# Altium schematic symbol library WRIS-KWKH.SchLib: 14 symbols
Pins are listed as number, name and electrical type; pins without a type are passive.

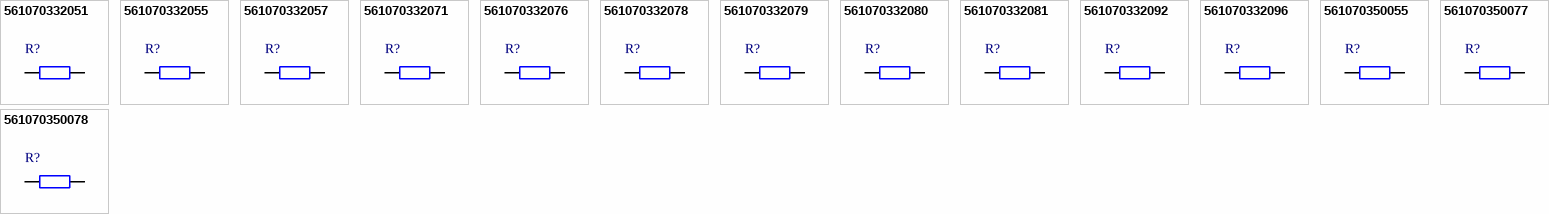
[diagram p0: symbols 561070332051 to 561070350078]

## 561070332051
designator R?, comment 100mΩ  (value not drawn)
WRIS-KWKH Thick Film Resistor, SMT, size 0612, 1W, 100mΩ, +/-1%; Manufacturer Part Number: 561070332051; Manufacturer: Wurth Elektronik; Case/Size Code: 0612; Rated Current: 3.2A; Temperature Coefficient of Resistance: 350ppm/°C; Category: Thick Film Resistors; Match Code: WRIS-KWKH; ComponentLink1Description: Website Link; ComponentLink1URL: https://www.we-online.com/redexpert/article/561070332051?ad; ComponentLink2Description: Datasheet Link; ComponentLink2URL: https://www.we-online.com/redexpert/spec/561070332051?ad; Mount: Surface Mount; Min Operating Temperature: -55°C; Max Operating Temperature: 155°C; Packaging: Tape and Reel; Length: 3.2mm; Width: 1.6mm; Height: 0.55mm; Rated Power: 1W; Resistance: 100mΩ; Resistance Tolerance: +/-1%
footprint WRIS-KWKH_0612_L3.2W1.6H0.55
pins: 1, 2

## 561070332055
designator R?, comment 150mΩ  (value not drawn)
WRIS-KWKH Thick Film Resistor, SMT, size 0612, 1W, 150mΩ, +/-1%; Manufacturer Part Number: 561070332055; Manufacturer: Wurth Elektronik; Case/Size Code: 0612; Rated Current: 2.6A; Temperature Coefficient of Resistance: 350ppm/°C; Category: Thick Film Resistors; Match Code: WRIS-KWKH; ComponentLink1Description: Website Link; ComponentLink1URL: https://www.we-online.com/redexpert/article/561070332055?ad; ComponentLink2Description: Datasheet Link; ComponentLink2URL: https://www.we-online.com/redexpert/spec/561070332055?ad; Mount: Surface Mount; Min Operating Temperature: -55°C; Max Operating Temperature: 155°C; Packaging: Tape and Reel; Length: 3.2mm; Width: 1.6mm; Height: 0.55mm; Rated Power: 1W; Resistance: 150mΩ; Resistance Tolerance: +/-1%
footprint WRIS-KWKH_0612_L3.2W1.6H0.55
pins: 1, 2

## 561070332057
designator R?, comment 180mΩ  (value not drawn)
WRIS-KWKH Thick Film Resistor, SMT, size 0612, 1W, 180mΩ, +/-1%; Manufacturer Part Number: 561070332057; Manufacturer: Wurth Elektronik; Case/Size Code: 0612; Rated Current: 2.4A; Temperature Coefficient of Resistance: 350ppm/°C; Category: Thick Film Resistors; Match Code: WRIS-KWKH; ComponentLink1Description: Website Link; ComponentLink1URL: https://www.we-online.com/redexpert/article/561070332057?ad; ComponentLink2Description: Datasheet Link; ComponentLink2URL: https://www.we-online.com/redexpert/spec/561070332057?ad; Mount: Surface Mount; Min Operating Temperature: -55°C; Max Operating Temperature: 155°C; Packaging: Tape and Reel; Length: 3.2mm; Width: 1.6mm; Height: 0.55mm; Rated Power: 1W; Resistance: 180mΩ; Resistance Tolerance: +/-1%
footprint WRIS-KWKH_0612_L3.2W1.6H0.55
pins: 1, 2

## 561070332071
designator R?, comment 330mΩ  (value not drawn)
WRIS-KWKH Thick Film Resistor, SMT, size 0612, 1W, 330mΩ, +/-1%; Manufacturer Part Number: 561070332071; Manufacturer: Wurth Elektronik; Case/Size Code: 0612; Rated Current: 1.7A; Temperature Coefficient of Resistance: 250ppm/°C; Category: Thick Film Resistors; Match Code: WRIS-KWKH; ComponentLink1Description: Website Link; ComponentLink1URL: https://www.we-online.com/redexpert/article/561070332071?ad; ComponentLink2Description: Datasheet Link; ComponentLink2URL: https://www.we-online.com/redexpert/spec/561070332071?ad; Mount: Surface Mount; Min Operating Temperature: -55°C; Max Operating Temperature: 155°C; Packaging: Tape and Reel; Length: 3.2mm; Width: 1.6mm; Height: 0.55mm; Rated Power: 1W; Resistance: 330mΩ; Resistance Tolerance: +/-1%
footprint WRIS-KWKH_0612_L3.2W1.6H0.55
pins: 1, 2

## 561070332076
designator R?, comment 470mΩ  (value not drawn)
WRIS-KWKH Thick Film Resistor, SMT, size 0612, 1W, 470mΩ, +/-1%; Manufacturer Part Number: 561070332076; Manufacturer: Wurth Elektronik; Case/Size Code: 0612; Rated Current: 1.5A; Temperature Coefficient of Resistance: 250ppm/°C; Category: Thick Film Resistors; Match Code: WRIS-KWKH; ComponentLink1Description: Website Link; ComponentLink1URL: https://www.we-online.com/redexpert/article/561070332076?ad; ComponentLink2Description: Datasheet Link; ComponentLink2URL: https://www.we-online.com/redexpert/spec/561070332076?ad; Mount: Surface Mount; Min Operating Temperature: -55°C; Max Operating Temperature: 155°C; Packaging: Tape and Reel; Length: 3.2mm; Width: 1.6mm; Height: 0.55mm; Rated Power: 1W; Resistance: 470mΩ; Resistance Tolerance: +/-1%
footprint WRIS-KWKH_0612_L3.2W1.6H0.55
pins: 1, 2

## 561070332078
designator R?, comment 510mΩ  (value not drawn)
WRIS-KWKH Thick Film Resistor, SMT, size 0612, 1W, 510mΩ, +/-1%; Manufacturer Part Number: 561070332078; Manufacturer: Wurth Elektronik; Case/Size Code: 0612; Rated Current: 1.4A; Temperature Coefficient of Resistance: 200ppm/°C; Category: Thick Film Resistors; Match Code: WRIS-KWKH; ComponentLink1Description: Website Link; ComponentLink1URL: https://www.we-online.com/redexpert/article/561070332078?ad; ComponentLink2Description: Datasheet Link; ComponentLink2URL: https://www.we-online.com/redexpert/spec/561070332078?ad; Mount: Surface Mount; Min Operating Temperature: -55°C; Max Operating Temperature: 155°C; Packaging: Tape and Reel; Length: 3.2mm; Width: 1.6mm; Height: 0.55mm; Rated Power: 1W; Resistance: 510mΩ; Resistance Tolerance: +/-1%
footprint WRIS-KWKH_0612_L3.2W1.6H0.55
pins: 1, 2

## 561070332079
designator R?, comment 560mΩ  (value not drawn)
WRIS-KWKH Thick Film Resistor, SMT, size 0612, 1W, 560mΩ, +/-1%; Manufacturer Part Number: 561070332079; Manufacturer: Wurth Elektronik; Case/Size Code: 0612; Rated Current: 1.3A; Temperature Coefficient of Resistance: 200ppm/°C; Category: Thick Film Resistors; Match Code: WRIS-KWKH; ComponentLink1Description: Website Link; ComponentLink1URL: https://www.we-online.com/redexpert/article/561070332079?ad; ComponentLink2Description: Datasheet Link; ComponentLink2URL: https://www.we-online.com/redexpert/spec/561070332079?ad; Mount: Surface Mount; Min Operating Temperature: -55°C; Max Operating Temperature: 155°C; Packaging: Tape and Reel; Length: 3.2mm; Width: 1.6mm; Height: 0.55mm; Rated Power: 1W; Resistance: 560mΩ; Resistance Tolerance: +/-1%
footprint WRIS-KWKH_0612_L3.2W1.6H0.55
pins: 1, 2

## 561070332080
designator R?, comment 600mΩ  (value not drawn)
WRIS-KWKH Thick Film Resistor, SMT, size 0612, 1W, 600mΩ, +/-1%; Manufacturer Part Number: 561070332080; Manufacturer: Wurth Elektronik; Case/Size Code: 0612; Rated Current: 1.3A; Temperature Coefficient of Resistance: 200ppm/°C; Category: Thick Film Resistors; Match Code: WRIS-KWKH; ComponentLink1Description: Website Link; ComponentLink1URL: https://www.we-online.com/redexpert/article/561070332080?ad; ComponentLink2Description: Datasheet Link; ComponentLink2URL: https://www.we-online.com/redexpert/spec/561070332080?ad; Mount: Surface Mount; Min Operating Temperature: -55°C; Max Operating Temperature: 155°C; Packaging: Tape and Reel; Length: 3.2mm; Width: 1.6mm; Height: 0.55mm; Rated Power: 1W; Resistance: 600mΩ; Resistance Tolerance: +/-1%
footprint WRIS-KWKH_0612_L3.2W1.6H0.55
pins: 1, 2

## 561070332081
designator R?, comment 620mΩ  (value not drawn)
WRIS-KWKH Thick Film Resistor, SMT, size 0612, 1W, 620mΩ, +/-1%; Manufacturer Part Number: 561070332081; Manufacturer: Wurth Elektronik; Case/Size Code: 0612; Rated Current: 1.3A; Temperature Coefficient of Resistance: 200ppm/°C; Category: Thick Film Resistors; Match Code: WRIS-KWKH; ComponentLink1Description: Website Link; ComponentLink1URL: https://www.we-online.com/redexpert/article/561070332081?ad; ComponentLink2Description: Datasheet Link; ComponentLink2URL: https://www.we-online.com/redexpert/spec/561070332081?ad; Mount: Surface Mount; Min Operating Temperature: -55°C; Max Operating Temperature: 155°C; Packaging: Tape and Reel; Length: 3.2mm; Width: 1.6mm; Height: 0.55mm; Rated Power: 1W; Resistance: 620mΩ; Resistance Tolerance: +/-1%
footprint WRIS-KWKH_0612_L3.2W1.6H0.55
pins: 1, 2

## 561070332092
designator R?, comment 240mΩ  (value not drawn)
WRIS-KWKH Thick Film Resistor, SMT, size 0612, 1W, 240mΩ, +/-5%; Manufacturer Part Number: 561070332092; Manufacturer: Wurth Elektronik; Case/Size Code: 0612; Rated Current: 2A; Temperature Coefficient of Resistance: 250ppm/°C; Category: Thick Film Resistors; Match Code: WRIS-KWKH; ComponentLink1Description: Website Link; ComponentLink1URL: https://www.we-online.com/redexpert/article/561070332092?ad; ComponentLink2Description: Datasheet Link; ComponentLink2URL: https://www.we-online.com/redexpert/spec/561070332092?ad; Mount: Surface Mount; Min Operating Temperature: -55°C; Max Operating Temperature: 155°C; Packaging: Tape and Reel; Length: 3.2mm; Width: 1.6mm; Height: 0.55mm; Rated Power: 1W; Resistance: 240mΩ; Resistance Tolerance: +/-5%
footprint WRIS-KWKH_0612_L3.2W1.6H0.55
pins: 1, 2

## 561070332096
designator R?, comment 330mΩ  (value not drawn)
WRIS-KWKH Thick Film Resistor, SMT, size 0612, 1W, 330mΩ, +/-5%; Manufacturer Part Number: 561070332096; Manufacturer: Wurth Elektronik; Case/Size Code: 0612; Rated Current: 1.7A; Temperature Coefficient of Resistance: 250ppm/°C; Category: Thick Film Resistors; Match Code: WRIS-KWKH; ComponentLink1Description: Website Link; ComponentLink1URL: https://www.we-online.com/redexpert/article/561070332096?ad; ComponentLink2Description: Datasheet Link; ComponentLink2URL: https://www.we-online.com/redexpert/spec/561070332096?ad; Mount: Surface Mount; Min Operating Temperature: -55°C; Max Operating Temperature: 155°C; Packaging: Tape and Reel; Length: 3.2mm; Width: 1.6mm; Height: 0.55mm; Rated Power: 1W; Resistance: 330mΩ; Resistance Tolerance: +/-5%
footprint WRIS-KWKH_0612_L3.2W1.6H0.55
pins: 1, 2

## 561070350055
designator R?, comment 150mΩ  (value not drawn)
WRIS-KWKH Thick Film Resistor, SMT, size 1020, 1W, 150mΩ, +/-1%; Manufacturer Part Number: 561070350055; Manufacturer: Wurth Elektronik; Case/Size Code: 1020; Rated Current: 2.58A; Temperature Coefficient of Resistance: 350ppm/°C; Category: Thick Film Resistors; Match Code: WRIS-KWKH; ComponentLink1Description: Website Link; ComponentLink1URL: https://www.we-online.com/redexpert/article/561070350055?ad; ComponentLink2Description: Datasheet Link; ComponentLink2URL: https://www.we-online.com/redexpert/spec/561070350055?ad; Mount: Surface Mount; Min Operating Temperature: -55°C; Max Operating Temperature: 155°C; Packaging: Tape and Reel; Length: 5mm; Width: 2.5mm; Height: 0.55mm; Rated Power: 1W; Resistance: 150mΩ; Resistance Tolerance: +/-1%
footprint WRIS-KWKH_1020_L5W2.5H0.55
pins: 1, 2

## 561070350077
designator R?, comment 500mΩ  (value not drawn)
WRIS-KWKH Thick Film Resistor, SMT, size 1020, 1W, 500mΩ, +/-1%; Manufacturer Part Number: 561070350077; Manufacturer: Wurth Elektronik; Case/Size Code: 1020; Rated Current: 1.41A; Temperature Coefficient of Resistance: 200ppm/°C; Category: Thick Film Resistors; Match Code: WRIS-KWKH; ComponentLink1Description: Website Link; ComponentLink1URL: https://www.we-online.com/redexpert/article/561070350077?ad; ComponentLink2Description: Datasheet Link; ComponentLink2URL: https://www.we-online.com/redexpert/spec/561070350077?ad; Mount: Surface Mount; Min Operating Temperature: -55°C; Max Operating Temperature: 155°C; Packaging: Tape and Reel; Length: 5mm; Width: 2.5mm; Height: 0.55mm; Rated Power: 1W; Resistance: 500mΩ; Resistance Tolerance: +/-1%
footprint WRIS-KWKH_1020_L5W2.5H0.55
pins: 1, 2

## 561070350078
designator R?, comment 510mΩ  (value not drawn)
WRIS-KWKH Thick Film Resistor, SMT, size 1020, 1W, 510mΩ, +/-1%; Manufacturer Part Number: 561070350078; Manufacturer: Wurth Elektronik; Case/Size Code: 1020; Rated Current: 1.4A; Temperature Coefficient of Resistance: 200ppm/°C; Category: Thick Film Resistors; Match Code: WRIS-KWKH; ComponentLink1Description: Website Link; ComponentLink1URL: https://www.we-online.com/redexpert/article/561070350078?ad; ComponentLink2Description: Datasheet Link; ComponentLink2URL: https://www.we-online.com/redexpert/spec/561070350078?ad; Mount: Surface Mount; Min Operating Temperature: -55°C; Max Operating Temperature: 155°C; Packaging: Tape and Reel; Length: 5mm; Width: 2.5mm; Height: 0.55mm; Rated Power: 1W; Resistance: 510mΩ; Resistance Tolerance: +/-1%
footprint WRIS-KWKH_1020_L5W2.5H0.55
pins: 1, 2